# Altium integrated library Microchip Power Management CPU-System Supervisor.IntLib: 428 symbols (part 4 of 12)
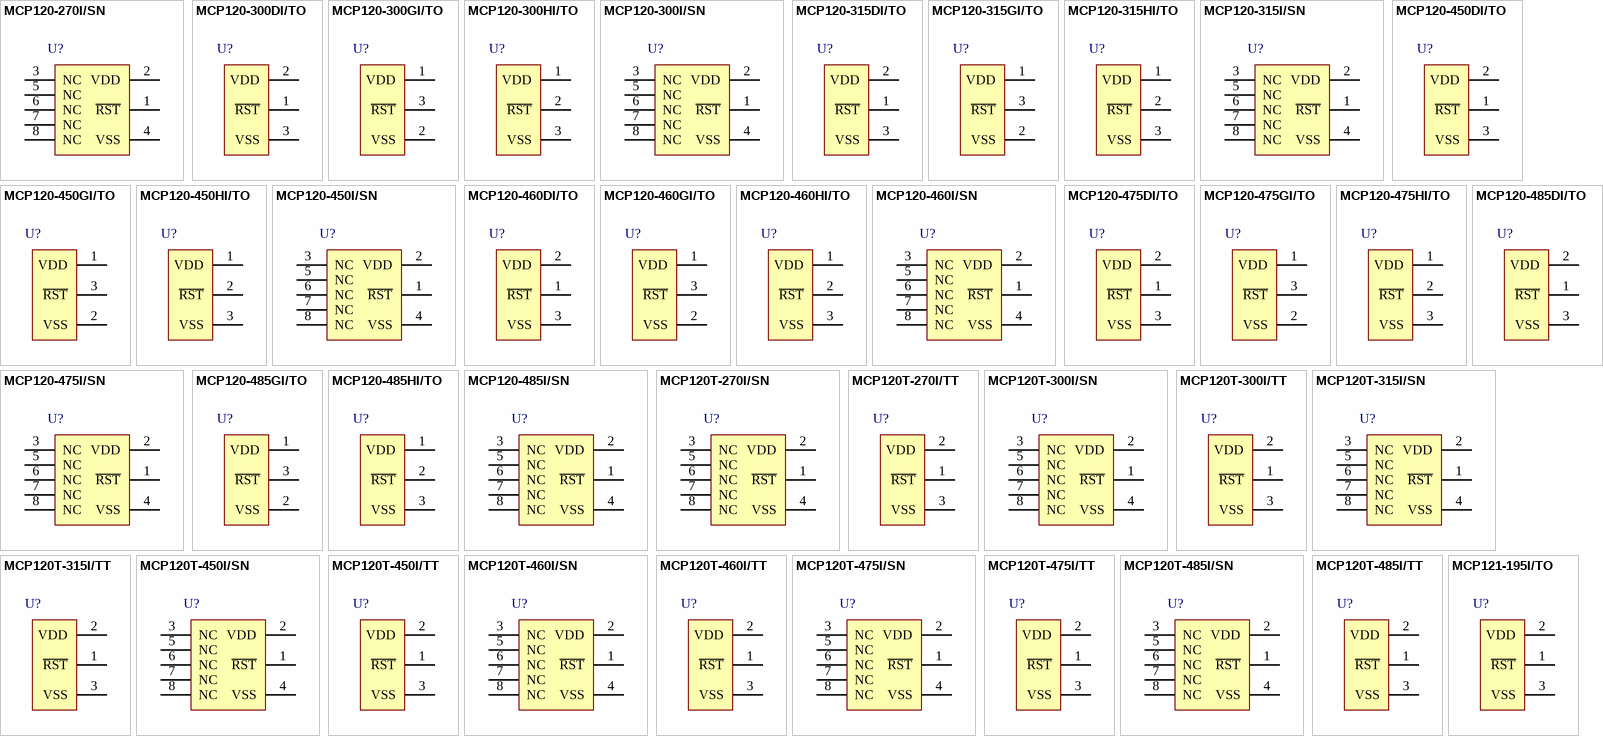
[diagram p13: symbols MCP120-270I/SN to MCP121-195I/TO]

## MCP120T-485I/TT
designator U?
Microcontroller Supervisory Circuit with Open Drain Output, 3-Pin SOT-23, Industrial Temperature, Tape and Reel; Manufacturer: Microchip; PartNumber: MCP120T-485I/TT; DatasheetVersion: revD, 2001; PackageVersion: revBB, Aug-2009; PackageReference: SOT-23-TT3; PackageDescription: 3-Lead Plastic Small Outline Transistor (TT) [SOT-23]; Supplier 1: Digi-Key; Supplier Part Number 1: MCP120T-485I/TTTR-ND; Supplier 2: Digi-Key; Supplier Part Number 2: MCP120T-485I/TTCT-ND; Supplier 3: Digi-Key; Supplier Part Number 3: MCP120T-485I/TTDKR-ND; Supplier 4: Farnell; Supplier Part Number 4: 1851899; Supplier 5: Farnell; Supplier Part Number 5: 1851899RL; Supplier 6: Newark; Supplier Part Number 6: 23C2797; Supplier 7: Mouser; Supplier Part Number 7: 579-MCP120T-485I/TT; Mounting Technology: Surface Mount; Code_IPC: SOT23-3; ComponentLink1Description: Manufacturer URL; ComponentLink1URL: http://www.microchip.com/; ComponentLink2Description: Datasheet; ComponentLink2URL: http://ww1.microchip.com/downloads/en/DeviceDoc/11184d.pdf; ComponentLink3Description: Package Specification; ComponentLink3URL: http://www.microchip.com/stellent/groups/techpub_sg/documents/packagingspec/en012702.pdf
footprint SOT-23-TT3_N (SOT23, 3-Leads, Body 2.9x1.3mm, Pitch 0.95mm, Lead Span 2.4mm, IPC Medium Density)
footprint SOT-23-TT3_L (SOT23, 3-Leads, Body 2.9x1.3mm, Pitch 0.95mm, Lead Span 2.4mm, IPC High Density)
footprint SOT-23-TT3_M (SOT23, 3-Leads, Body 2.9x1.3mm, Pitch 0.95mm, Lead Span 2.4mm, IPC Low Density)
pins: 1 ~{RST} (oc), 2 VDD (power), 3 VSS (power)

## MCP121-195I/TO
designator U?
Micropower Voltage Supervisors, 3-Pin TO-92, Industrial Temperature; Manufacturer: Microchip; PartNumber: MCP121-195I/TO; DatasheetVersion: revB, Mar-2005; PackageVersion: revBB, Aug-2009; PackageReference: TO-92-TO3; PackageDescription: 3-Lead Plastic Transistor Outline (TO) [TO-92]; Supplier 1: Digi-Key; Supplier Part Number 1: MCP121-195I/TO-ND; Supplier 2: Farnell; Supplier Part Number 2: 1851900; Supplier 3: Newark; Supplier Part Number 3: 43J9472; Supplier 4: Mouser; Supplier Part Number 4: 579-MCP121-195I/TO; Mounting Technology: Through Hole; ComponentLink1Description: Manufacturer URL; ComponentLink1URL: http://www.microchip.com/; ComponentLink2Description: Datasheet; ComponentLink2URL: http://ww1.microchip.com/downloads/en/DeviceDoc/21906b.pdf; ComponentLink3Description: Package Specification; ComponentLink3URL: http://www.microchip.com/stellent/groups/techpub_sg/documents/packagingspec/en012702.pdf
footprint TO-92-TO3 (TO, Flat Index; 3 In-Line, Axial Leads; Body Dia. 4.8mm; Leads 0.56 x 0.53 mm (max))
pins: 1 ~{RST} (oc), 2 VDD (power), 3 VSS (power)

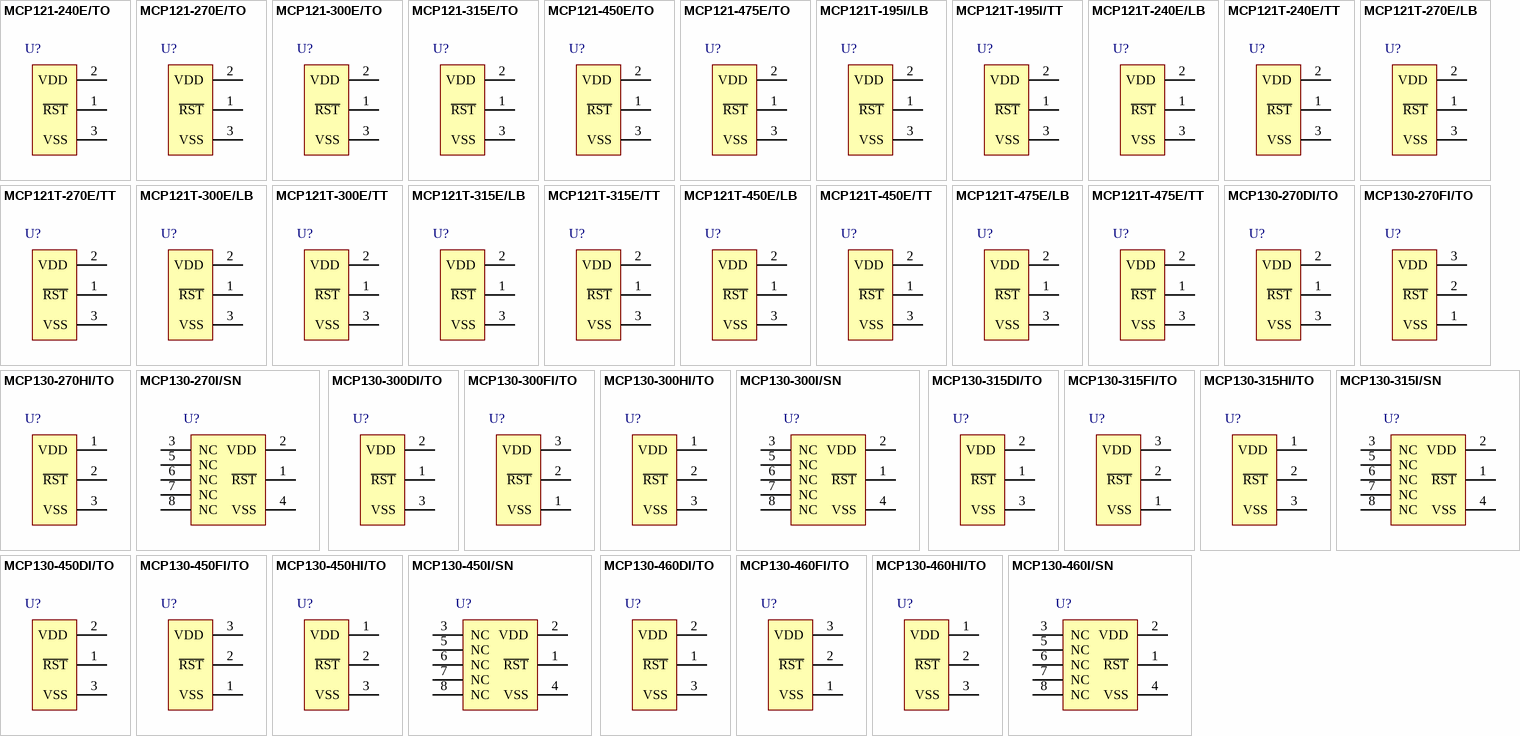
[diagram p3: symbols MCP121-240E/TO to MCP130-460I/SN]

## MCP121-240E/TO
designator U?
Micropower Voltage Supervisors, 3-Pin TO-92, Extended Temperature; Manufacturer: Microchip; PartNumber: MCP121-240E/TO; DatasheetVersion: revB, Mar-2005; PackageVersion: revBB, Aug-2009; PackageReference: TO-92-TO3; PackageDescription: 3-Lead Plastic Transistor Outline (TO) [TO-92]; Supplier 1: Digi-Key; Supplier Part Number 1: MCP121-240E/TO-ND; Supplier 2: Farnell; Supplier Part Number 2: 1851902; Supplier 3: Newark; Supplier Part Number 3: 43J9473; Supplier 4: Mouser; Supplier Part Number 4: 579-MCP121-240E/TO; Mounting Technology: Through Hole; ComponentLink1Description: Manufacturer URL; ComponentLink1URL: http://www.microchip.com/; ComponentLink2Description: Datasheet; ComponentLink2URL: http://ww1.microchip.com/downloads/en/DeviceDoc/21906b.pdf; ComponentLink3Description: Package Specification; ComponentLink3URL: http://www.microchip.com/stellent/groups/techpub_sg/documents/packagingspec/en012702.pdf
footprint TO-92-TO3 (TO, Flat Index; 3 In-Line, Axial Leads; Body Dia. 4.8mm; Leads 0.56 x 0.53 mm (max))
pins: 1 ~{RST} (oc), 2 VDD (power), 3 VSS (power)

## MCP121-270E/TO
designator U?
Micropower Voltage Supervisors, 3-Pin TO-92, Extended Temperature; Manufacturer: Microchip; PartNumber: MCP121-270E/TO; DatasheetVersion: revB, Mar-2005; PackageVersion: revBB, Aug-2009; PackageReference: TO-92-TO3; PackageDescription: 3-Lead Plastic Transistor Outline (TO) [TO-92]; Supplier 1: Digi-Key; Supplier Part Number 1: MCP121-270E/TO-ND; Supplier 2: Farnell; Supplier Part Number 2: 1851903; Supplier 3: Newark; Supplier Part Number 3: 43J9474; Supplier 4: Mouser; Supplier Part Number 4: 579-MCP121-270E/TO; Mounting Technology: Through Hole; ComponentLink1Description: Manufacturer URL; ComponentLink1URL: http://www.microchip.com/; ComponentLink2Description: Datasheet; ComponentLink2URL: http://ww1.microchip.com/downloads/en/DeviceDoc/21906b.pdf; ComponentLink3Description: Package Specification; ComponentLink3URL: http://www.microchip.com/stellent/groups/techpub_sg/documents/packagingspec/en012702.pdf
footprint TO-92-TO3 (TO, Flat Index; 3 In-Line, Axial Leads; Body Dia. 4.8mm; Leads 0.56 x 0.53 mm (max))
pins: 1 ~{RST} (oc), 2 VDD (power), 3 VSS (power)

## MCP121-300E/TO
designator U?
Micropower Voltage Supervisors, 3-Pin TO-92, Extended Temperature; Manufacturer: Microchip; PartNumber: MCP121-300E/TO; DatasheetVersion: revB, Mar-2005; PackageVersion: revBB, Aug-2009; PackageReference: TO-92-TO3; PackageDescription: 3-Lead Plastic Transistor Outline (TO) [TO-92]; Supplier 1: Digi-Key; Supplier Part Number 1: MCP121-300E/TO-ND; Supplier 2: Farnell; Supplier Part Number 2: 1834867; Supplier 3: Newark; Supplier Part Number 3: 43J9475; Supplier 4: Mouser; Supplier Part Number 4: 579-MCP121-300E/TO; Mounting Technology: Through Hole; ComponentLink1Description: Manufacturer URL; ComponentLink1URL: http://www.microchip.com/; ComponentLink2Description: Datasheet; ComponentLink2URL: http://ww1.microchip.com/downloads/en/DeviceDoc/21906b.pdf; ComponentLink3Description: Package Specification; ComponentLink3URL: http://www.microchip.com/stellent/groups/techpub_sg/documents/packagingspec/en012702.pdf
footprint TO-92-TO3 (TO, Flat Index; 3 In-Line, Axial Leads; Body Dia. 4.8mm; Leads 0.56 x 0.53 mm (max))
pins: 1 ~{RST} (oc), 2 VDD (power), 3 VSS (power)

## MCP121-315E/TO
designator U?
Micropower Voltage Supervisors, 3-Pin TO-92, Extended Temperature; Manufacturer: Microchip; PartNumber: MCP121-315E/TO; DatasheetVersion: revB, Mar-2005; PackageVersion: revBB, Aug-2009; PackageReference: TO-92-TO3; PackageDescription: 3-Lead Plastic Transistor Outline (TO) [TO-92]; Supplier 1: Digi-Key; Supplier Part Number 1: MCP121-315E/TO-ND; Supplier 2: Farnell; Supplier Part Number 2: 1851904; Supplier 3: Newark; Supplier Part Number 3: 43J9476; Supplier 4: Mouser; Supplier Part Number 4: 579-MCP121-315E/TO; Mounting Technology: Through Hole; ComponentLink1Description: Manufacturer URL; ComponentLink1URL: http://www.microchip.com/; ComponentLink2Description: Datasheet; ComponentLink2URL: http://ww1.microchip.com/downloads/en/DeviceDoc/21906b.pdf; ComponentLink3Description: Package Specification; ComponentLink3URL: http://www.microchip.com/stellent/groups/techpub_sg/documents/packagingspec/en012702.pdf
footprint TO-92-TO3 (TO, Flat Index; 3 In-Line, Axial Leads; Body Dia. 4.8mm; Leads 0.56 x 0.53 mm (max))
pins: 1 ~{RST} (oc), 2 VDD (power), 3 VSS (power)

## MCP121-450E/TO
designator U?
Micropower Voltage Supervisors, 3-Pin TO-92, Extended Temperature; Manufacturer: Microchip; PartNumber: MCP121-450E/TO; DatasheetVersion: revB, Mar-2005; PackageVersion: revBB, Aug-2009; PackageReference: TO-92-TO3; PackageDescription: 3-Lead Plastic Transistor Outline (TO) [TO-92]; Supplier 1: Digi-Key; Supplier Part Number 1: MCP121-450E/TO-ND; Supplier 2: Farnell; Supplier Part Number 2: 8752885; Supplier 3: Newark; Supplier Part Number 3: 43J9477; Supplier 4: Mouser; Supplier Part Number 4: 579-MCP121-450E/TO; Mounting Technology: Through Hole; ComponentLink1Description: Manufacturer URL; ComponentLink1URL: http://www.microchip.com/; ComponentLink2Description: Datasheet; ComponentLink2URL: http://ww1.microchip.com/downloads/en/DeviceDoc/21906b.pdf; ComponentLink3Description: Package Specification; ComponentLink3URL: http://www.microchip.com/stellent/groups/techpub_sg/documents/packagingspec/en012702.pdf
footprint TO-92-TO3 (TO, Flat Index; 3 In-Line, Axial Leads; Body Dia. 4.8mm; Leads 0.56 x 0.53 mm (max))
pins: 1 ~{RST} (oc), 2 VDD (power), 3 VSS (power)

## MCP121-475E/TO
designator U?
Micropower Voltage Supervisors, 3-Pin TO-92, Extended Temperature; Manufacturer: Microchip; PartNumber: MCP121-475E/TO; DatasheetVersion: revB, Mar-2005; PackageVersion: revBB, Aug-2009; PackageReference: TO-92-TO3; PackageDescription: 3-Lead Plastic Transistor Outline (TO) [TO-92]; Supplier 1: Digi-Key; Supplier Part Number 1: MCP121-475E/TO-ND; Supplier 2: Farnell; Supplier Part Number 2: 1851905; Supplier 3: Newark; Supplier Part Number 3: 43J9478; Supplier 4: Mouser; Supplier Part Number 4: 579-MCP121-475E/TO; Mounting Technology: Through Hole; ComponentLink1Description: Manufacturer URL; ComponentLink1URL: http://www.microchip.com/; ComponentLink2Description: Datasheet; ComponentLink2URL: http://ww1.microchip.com/downloads/en/DeviceDoc/21906b.pdf; ComponentLink3Description: Package Specification; ComponentLink3URL: http://www.microchip.com/stellent/groups/techpub_sg/documents/packagingspec/en012702.pdf
footprint TO-92-TO3 (TO, Flat Index; 3 In-Line, Axial Leads; Body Dia. 4.8mm; Leads 0.56 x 0.53 mm (max))
pins: 1 ~{RST} (oc), 2 VDD (power), 3 VSS (power)

## MCP121T-195I/LB
designator U?
Micropower Voltage Supervisors, 3-Pin SC-70, Industrial Temperature, Tape and Reel; Manufacturer: Microchip; PartNumber: MCP121T-195I/LB; DatasheetVersion: revB, Mar-2005; PackageVersion: revBB, Aug-2009; PackageReference: SC70-LB3; PackageDescription: 3-Lead Plastic Small Outline Transistor (LB) [SC70]; Supplier 1: Digi-Key; Supplier Part Number 1: MCP121T-195I/LBTR-ND; Supplier 2: Digi-Key; Supplier Part Number 2: MCP121T-195I/LBCT-ND; Supplier 3: Digi-Key; Supplier Part Number 3: MCP121T-195I/LBDKR-ND; Supplier 4: Newark; Supplier Part Number 4: 88H9748; Supplier 5: Mouser; Supplier Part Number 5: 579-MCP121T-195I/LB; Mounting Technology: Surface Mount; ComponentLink1Description: Manufacturer URL; ComponentLink1URL: http://www.microchip.com/; ComponentLink2Description: Datasheet; ComponentLink2URL: http://ww1.microchip.com/downloads/en/DeviceDoc/21906b.pdf; ComponentLink3Description: Package Specification; ComponentLink3URL: http://www.microchip.com/stellent/groups/techpub_sg/documents/packagingspec/en012702.pdf
footprint SC70-LB3_N (SOT323, 3-Leads, Body 2.0x1.3mm, Pitch 0.65mm, Lead Span 2.1mm, IPC Medium Density)
footprint SC70-LB3_L (SOT323, 3-Leads, Body 2.0x1.3mm, Pitch 0.65mm, Lead Span 2.1mm, IPC High Density)
footprint SC70-LB3_M (SOT323, 3-Leads, Body 2.0x1.3mm, Pitch 0.65mm, Lead Span 2.1mm, IPC Low Density)
pins: 1 ~{RST} (oc), 2 VDD (power), 3 VSS (power)

## MCP121T-195I/TT
designator U?
Micropower Voltage Supervisors, 3-Pin SOT-23, Industrial Temperature, Tape and Reel; Manufacturer: Microchip; PartNumber: MCP121T-195I/TT; DatasheetVersion: revB, Mar-2005; PackageVersion: revBB, Aug-2009; PackageReference: SOT-23-TT3; PackageDescription: 3-Lead Plastic Small Outline Transistor (TT) [SOT-23]; Supplier 1: Digi-Key; Supplier Part Number 1: MCP121T-195I/TTTR-ND; Supplier 2: Digi-Key; Supplier Part Number 2: MCP121T-195I/TTCT-ND; Supplier 3: Digi-Key; Supplier Part Number 3: MCP121T-195I/TTDKR-ND; Supplier 4: Farnell; Supplier Part Number 4: 1851906RL; Supplier 5: Farnell; Supplier Part Number 5: 1851906; Supplier 6: Newark; Supplier Part Number 6: 88H9750; Supplier 7: Mouser; Supplier Part Number 7: 579-MCP121T-195I/TT; Mounting Technology: Surface Mount; Code_IPC: SOT23-3; ComponentLink1Description: Manufacturer URL; ComponentLink1URL: http://www.microchip.com/; ComponentLink2Description: Datasheet; ComponentLink2URL: http://ww1.microchip.com/downloads/en/DeviceDoc/21906b.pdf; ComponentLink3Description: Package Specification; ComponentLink3URL: http://www.microchip.com/stellent/groups/techpub_sg/documents/packagingspec/en012702.pdf
footprint SOT-23-TT3_N (SOT23, 3-Leads, Body 2.9x1.3mm, Pitch 0.95mm, Lead Span 2.4mm, IPC Medium Density)
footprint SOT-23-TT3_L (SOT23, 3-Leads, Body 2.9x1.3mm, Pitch 0.95mm, Lead Span 2.4mm, IPC High Density)
footprint SOT-23-TT3_M (SOT23, 3-Leads, Body 2.9x1.3mm, Pitch 0.95mm, Lead Span 2.4mm, IPC Low Density)
pins: 1 ~{RST} (oc), 2 VDD (power), 3 VSS (power)

## MCP121T-240E/LB
designator U?
Micropower Voltage Supervisors, 3-Pin SC-70, Extended Temperature, Tape and Reel; Manufacturer: Microchip; PartNumber: MCP121T-240E/LB; DatasheetVersion: revB, Mar-2005; PackageVersion: revBB, Aug-2009; PackageReference: SC70-LB3; PackageDescription: 3-Lead Plastic Small Outline Transistor (LB) [SC70]; Supplier 1: Digi-Key; Supplier Part Number 1: MCP121T-240E/LB-ND; Supplier 2: Mouser; Supplier Part Number 2: 579-MCP121T-240E/LB; Mounting Technology: Surface Mount; ComponentLink1Description: Manufacturer URL; ComponentLink1URL: http://www.microchip.com/; ComponentLink2Description: Datasheet; ComponentLink2URL: http://ww1.microchip.com/downloads/en/DeviceDoc/21906b.pdf; ComponentLink3Description: Package Specification; ComponentLink3URL: http://www.microchip.com/stellent/groups/techpub_sg/documents/packagingspec/en012702.pdf
footprint SC70-LB3_N (SOT323, 3-Leads, Body 2.0x1.3mm, Pitch 0.65mm, Lead Span 2.1mm, IPC Medium Density)
footprint SC70-LB3_L (SOT323, 3-Leads, Body 2.0x1.3mm, Pitch 0.65mm, Lead Span 2.1mm, IPC High Density)
footprint SC70-LB3_M (SOT323, 3-Leads, Body 2.0x1.3mm, Pitch 0.65mm, Lead Span 2.1mm, IPC Low Density)
pins: 1 ~{RST} (oc), 2 VDD (power), 3 VSS (power)

## MCP121T-240E/TT
designator U?
Micropower Voltage Supervisors, 3-Pin SOT-23, Extended Temperature, Tape and Reel; Manufacturer: Microchip; PartNumber: MCP121T-240E/TT; DatasheetVersion: revB, Mar-2005; PackageVersion: revBB, Aug-2009; PackageReference: SOT-23-TT3; PackageDescription: 3-Lead Plastic Small Outline Transistor (TT) [SOT-23]; Supplier 1: Digi-Key; Supplier Part Number 1: MCP121T-240E/TTTR-ND; Supplier 2: Digi-Key; Supplier Part Number 2: MCP121T-240E/TTCT-ND; Supplier 3: Digi-Key; Supplier Part Number 3: MCP121T-240E/TTDKR-ND; Supplier 4: Farnell; Supplier Part Number 4: 1851907; Supplier 5: Farnell; Supplier Part Number 5: 1851907RL; Supplier 6: Newark; Supplier Part Number 6: 43J9480; Supplier 7: Newark; Supplier Part Number 7: 31T1314; Supplier 8: Mouser; Supplier Part Number 8: 579-MCP121T-240E/TT; Mounting Technology: Surface Mount; Code_IPC: SOT23-3; ComponentLink1Description: Manufacturer URL; ComponentLink1URL: http://www.microchip.com/; ComponentLink2Description: Datasheet; ComponentLink2URL: http://ww1.microchip.com/downloads/en/DeviceDoc/21906b.pdf; ComponentLink3Description: Package Specification; ComponentLink3URL: http://www.microchip.com/stellent/groups/techpub_sg/documents/packagingspec/en012702.pdf
footprint SOT-23-TT3_N (SOT23, 3-Leads, Body 2.9x1.3mm, Pitch 0.95mm, Lead Span 2.4mm, IPC Medium Density)
footprint SOT-23-TT3_L (SOT23, 3-Leads, Body 2.9x1.3mm, Pitch 0.95mm, Lead Span 2.4mm, IPC High Density)
footprint SOT-23-TT3_M (SOT23, 3-Leads, Body 2.9x1.3mm, Pitch 0.95mm, Lead Span 2.4mm, IPC Low Density)
pins: 1 ~{RST} (oc), 2 VDD (power), 3 VSS (power)

## MCP121T-270E/LB
designator U?
Micropower Voltage Supervisors, 3-Pin SC-70, Extended Temperature, Tape and Reel; Manufacturer: Microchip; PartNumber: MCP121T-270E/LB; DatasheetVersion: revB, Mar-2005; PackageVersion: revBB, Aug-2009; PackageReference: SC70-LB3; PackageDescription: 3-Lead Plastic Small Outline Transistor (LB) [SC70]; Supplier 1: Digi-Key; Supplier Part Number 1: MCP121T-270E/LB-ND; Supplier 2: Mouser; Supplier Part Number 2: 579-MCP121T-270E/LB; Mounting Technology: Surface Mount; ComponentLink1Description: Manufacturer URL; ComponentLink1URL: http://www.microchip.com/; ComponentLink2Description: Datasheet; ComponentLink2URL: http://ww1.microchip.com/downloads/en/DeviceDoc/21906b.pdf; ComponentLink3Description: Package Specification; ComponentLink3URL: http://www.microchip.com/stellent/groups/techpub_sg/documents/packagingspec/en012702.pdf
footprint SC70-LB3_N (SOT323, 3-Leads, Body 2.0x1.3mm, Pitch 0.65mm, Lead Span 2.1mm, IPC Medium Density)
footprint SC70-LB3_L (SOT323, 3-Leads, Body 2.0x1.3mm, Pitch 0.65mm, Lead Span 2.1mm, IPC High Density)
footprint SC70-LB3_M (SOT323, 3-Leads, Body 2.0x1.3mm, Pitch 0.65mm, Lead Span 2.1mm, IPC Low Density)
pins: 1 ~{RST} (oc), 2 VDD (power), 3 VSS (power)

## MCP121T-270E/TT
designator U?
Micropower Voltage Supervisors, 3-Pin SOT-23, Extended Temperature, Tape and Reel; Manufacturer: Microchip; PartNumber: MCP121T-270E/TT; DatasheetVersion: revB, Mar-2005; PackageVersion: revBB, Aug-2009; PackageReference: SOT-23-TT3; PackageDescription: 3-Lead Plastic Small Outline Transistor (TT) [SOT-23]; Supplier 1: Digi-Key; Supplier Part Number 1: MCP121T-270E/TTTR-ND; Supplier 2: Digi-Key; Supplier Part Number 2: MCP121T-270E/TTCT-ND; Supplier 3: Digi-Key; Supplier Part Number 3: MCP121T-270E/TTDKR-ND; Supplier 4: Farnell; Supplier Part Number 4: 1851908RL; Supplier 5: Farnell; Supplier Part Number 5: 1851908; Supplier 6: Newark; Supplier Part Number 6: 43J9482; Supplier 7: Newark; Supplier Part Number 7: 31T1315; Supplier 8: Mouser; Supplier Part Number 8: 579-MCP121T-270E/TT; Mounting Technology: Surface Mount; Code_IPC: SOT23-3; ComponentLink1Description: Manufacturer URL; ComponentLink1URL: http://www.microchip.com/; ComponentLink2Description: Datasheet; ComponentLink2URL: http://ww1.microchip.com/downloads/en/DeviceDoc/21906b.pdf; ComponentLink3Description: Package Specification; ComponentLink3URL: http://www.microchip.com/stellent/groups/techpub_sg/documents/packagingspec/en012702.pdf
footprint SOT-23-TT3_N (SOT23, 3-Leads, Body 2.9x1.3mm, Pitch 0.95mm, Lead Span 2.4mm, IPC Medium Density)
footprint SOT-23-TT3_L (SOT23, 3-Leads, Body 2.9x1.3mm, Pitch 0.95mm, Lead Span 2.4mm, IPC High Density)
footprint SOT-23-TT3_M (SOT23, 3-Leads, Body 2.9x1.3mm, Pitch 0.95mm, Lead Span 2.4mm, IPC Low Density)
pins: 1 ~{RST} (oc), 2 VDD (power), 3 VSS (power)

## MCP121T-300E/LB
designator U?
Micropower Voltage Supervisors, 3-Pin SC-70, Extended Temperature, Tape and Reel; Manufacturer: Microchip; PartNumber: MCP121T-300E/LB; DatasheetVersion: revB, Mar-2005; PackageVersion: revBB, Aug-2009; PackageReference: SC70-LB3; PackageDescription: 3-Lead Plastic Small Outline Transistor (LB) [SC70]; Supplier 1: Digi-Key; Supplier Part Number 1: MCP121T-300E/LB-ND; Supplier 2: Mouser; Supplier Part Number 2: 579-MCP121T-300E/LB; Mounting Technology: Surface Mount; ComponentLink1Description: Manufacturer URL; ComponentLink1URL: http://www.microchip.com/; ComponentLink2Description: Datasheet; ComponentLink2URL: http://ww1.microchip.com/downloads/en/DeviceDoc/21906b.pdf; ComponentLink3Description: Package Specification; ComponentLink3URL: http://www.microchip.com/stellent/groups/techpub_sg/documents/packagingspec/en012702.pdf
footprint SC70-LB3_N (SOT323, 3-Leads, Body 2.0x1.3mm, Pitch 0.65mm, Lead Span 2.1mm, IPC Medium Density)
footprint SC70-LB3_L (SOT323, 3-Leads, Body 2.0x1.3mm, Pitch 0.65mm, Lead Span 2.1mm, IPC High Density)
footprint SC70-LB3_M (SOT323, 3-Leads, Body 2.0x1.3mm, Pitch 0.65mm, Lead Span 2.1mm, IPC Low Density)
pins: 1 ~{RST} (oc), 2 VDD (power), 3 VSS (power)

## MCP121T-300E/TT
designator U?
Micropower Voltage Supervisors, 3-Pin SOT-23, Extended Temperature, Tape and Reel; Manufacturer: Microchip; PartNumber: MCP121T-300E/TT; DatasheetVersion: revB, Mar-2005; PackageVersion: revBB, Aug-2009; PackageReference: SOT-23-TT3; PackageDescription: 3-Lead Plastic Small Outline Transistor (TT) [SOT-23]; Supplier 1: Digi-Key; Supplier Part Number 1: MCP121T-300E/TTTR-ND; Supplier 2: Digi-Key; Supplier Part Number 2: MCP121T-300E/TTCT-ND; Supplier 3: Digi-Key; Supplier Part Number 3: MCP121T-300E/TTDKR-ND; Supplier 4: Farnell; Supplier Part Number 4: 1834868RL; Supplier 5: Farnell; Supplier Part Number 5: 1834868; Supplier 6: Newark; Supplier Part Number 6: 84R5170; Supplier 7: Mouser; Supplier Part Number 7: 579-MCP121T-300E/TT; Mounting Technology: Surface Mount; Code_IPC: SOT23-3; ComponentLink1Description: Manufacturer URL; ComponentLink1URL: http://www.microchip.com/; ComponentLink2Description: Datasheet; ComponentLink2URL: http://ww1.microchip.com/downloads/en/DeviceDoc/21906b.pdf; ComponentLink3Description: Package Specification; ComponentLink3URL: http://www.microchip.com/stellent/groups/techpub_sg/documents/packagingspec/en012702.pdf
footprint SOT-23-TT3_N (SOT23, 3-Leads, Body 2.9x1.3mm, Pitch 0.95mm, Lead Span 2.4mm, IPC Medium Density)
footprint SOT-23-TT3_L (SOT23, 3-Leads, Body 2.9x1.3mm, Pitch 0.95mm, Lead Span 2.4mm, IPC High Density)
footprint SOT-23-TT3_M (SOT23, 3-Leads, Body 2.9x1.3mm, Pitch 0.95mm, Lead Span 2.4mm, IPC Low Density)
pins: 1 ~{RST} (oc), 2 VDD (power), 3 VSS (power)

## MCP121T-315E/LB
designator U?
Micropower Voltage Supervisors, 3-Pin SC-70, Extended Temperature, Tape and Reel; Manufacturer: Microchip; PartNumber: MCP121T-315E/LB; DatasheetVersion: revB, Mar-2005; PackageVersion: revBB, Aug-2009; PackageReference: SC70-LB3; PackageDescription: 3-Lead Plastic Small Outline Transistor (LB) [SC70]; Supplier 1: Digi-Key; Supplier Part Number 1: MCP121T-315E/LB-ND; Supplier 2: Newark; Supplier Part Number 2: 43J9485; Supplier 3: Mouser; Supplier Part Number 3: 579-MCP121T-315E/LB; Mounting Technology: Surface Mount; ComponentLink1Description: Manufacturer URL; ComponentLink1URL: http://www.microchip.com/; ComponentLink2Description: Datasheet; ComponentLink2URL: http://ww1.microchip.com/downloads/en/DeviceDoc/21906b.pdf; ComponentLink3Description: Package Specification; ComponentLink3URL: http://www.microchip.com/stellent/groups/techpub_sg/documents/packagingspec/en012702.pdf
footprint SC70-LB3_N (SOT323, 3-Leads, Body 2.0x1.3mm, Pitch 0.65mm, Lead Span 2.1mm, IPC Medium Density)
footprint SC70-LB3_L (SOT323, 3-Leads, Body 2.0x1.3mm, Pitch 0.65mm, Lead Span 2.1mm, IPC High Density)
footprint SC70-LB3_M (SOT323, 3-Leads, Body 2.0x1.3mm, Pitch 0.65mm, Lead Span 2.1mm, IPC Low Density)
pins: 1 ~{RST} (oc), 2 VDD (power), 3 VSS (power)

## MCP121T-315E/TT
designator U?
Micropower Voltage Supervisors, 3-Pin SOT-23, Extended Temperature, Tape and Reel; Manufacturer: Microchip; PartNumber: MCP121T-315E/TT; DatasheetVersion: revB, Mar-2005; PackageVersion: revBB, Aug-2009; PackageReference: SOT-23-TT3; PackageDescription: 3-Lead Plastic Small Outline Transistor (TT) [SOT-23]; Supplier 1: Digi-Key; Supplier Part Number 1: MCP121T-315E/TTTR-ND; Supplier 2: Digi-Key; Supplier Part Number 2: MCP121T-315E/TTCT-ND; Supplier 3: Digi-Key; Supplier Part Number 3: MCP121T-315E/TTDKR-ND; Supplier 4: Farnell; Supplier Part Number 4: 1851909RL; Supplier 5: Farnell; Supplier Part Number 5: 1851909; Supplier 6: Newark; Supplier Part Number 6: 31T1316; Supplier 7: Newark; Supplier Part Number 7: 43J9486; Supplier 8: Mouser; Supplier Part Number 8: 579-MCP121T-315E/TT; Mounting Technology: Surface Mount; Code_IPC: SOT23-3; ComponentLink1Description: Manufacturer URL; ComponentLink1URL: http://www.microchip.com/; ComponentLink2Description: Datasheet; ComponentLink2URL: http://ww1.microchip.com/downloads/en/DeviceDoc/21906b.pdf; ComponentLink3Description: Package Specification; ComponentLink3URL: http://www.microchip.com/stellent/groups/techpub_sg/documents/packagingspec/en012702.pdf
footprint SOT-23-TT3_N (SOT23, 3-Leads, Body 2.9x1.3mm, Pitch 0.95mm, Lead Span 2.4mm, IPC Medium Density)
footprint SOT-23-TT3_L (SOT23, 3-Leads, Body 2.9x1.3mm, Pitch 0.95mm, Lead Span 2.4mm, IPC High Density)
footprint SOT-23-TT3_M (SOT23, 3-Leads, Body 2.9x1.3mm, Pitch 0.95mm, Lead Span 2.4mm, IPC Low Density)
pins: 1 ~{RST} (oc), 2 VDD (power), 3 VSS (power)

## MCP121T-450E/LB
designator U?
Micropower Voltage Supervisors, 3-Pin SC-70, Extended Temperature, Tape and Reel; Manufacturer: Microchip; PartNumber: MCP121T-450E/LB; DatasheetVersion: revB, Mar-2005; PackageVersion: revBB, Aug-2009; PackageReference: SC70-LB3; PackageDescription: 3-Lead Plastic Small Outline Transistor (LB) [SC70]; Supplier 1: Digi-Key; Supplier Part Number 1: MCP121T-450E/LB-ND; Supplier 2: Mouser; Supplier Part Number 2: 579-MCP121T-450E/LB; Mounting Technology: Surface Mount; ComponentLink1Description: Manufacturer URL; ComponentLink1URL: http://www.microchip.com/; ComponentLink2Description: Datasheet; ComponentLink2URL: http://ww1.microchip.com/downloads/en/DeviceDoc/21906b.pdf; ComponentLink3Description: Package Specification; ComponentLink3URL: http://www.microchip.com/stellent/groups/techpub_sg/documents/packagingspec/en012702.pdf
footprint SC70-LB3_N (SOT323, 3-Leads, Body 2.0x1.3mm, Pitch 0.65mm, Lead Span 2.1mm, IPC Medium Density)
footprint SC70-LB3_L (SOT323, 3-Leads, Body 2.0x1.3mm, Pitch 0.65mm, Lead Span 2.1mm, IPC High Density)
footprint SC70-LB3_M (SOT323, 3-Leads, Body 2.0x1.3mm, Pitch 0.65mm, Lead Span 2.1mm, IPC Low Density)
pins: 1 ~{RST} (oc), 2 VDD (power), 3 VSS (power)

## MCP121T-450E/TT
designator U?
Micropower Voltage Supervisors, 3-Pin SOT-23, Extended Temperature, Tape and Reel; Manufacturer: Microchip; PartNumber: MCP121T-450E/TT; DatasheetVersion: revB, Mar-2005; PackageVersion: revBB, Aug-2009; PackageReference: SOT-23-TT3; PackageDescription: 3-Lead Plastic Small Outline Transistor (TT) [SOT-23]; Supplier 1: Digi-Key; Supplier Part Number 1: MCP121T-450E/TTTR-ND; Supplier 2: Digi-Key; Supplier Part Number 2: MCP121T-450E/TTCT-ND; Supplier 3: Digi-Key; Supplier Part Number 3: MCP121T-450E/TTDKR-ND; Supplier 4: Farnell; Supplier Part Number 4: 1834869; Supplier 5: Farnell; Supplier Part Number 5: 1834869RL; Supplier 6: Newark; Supplier Part Number 6: 84R5171; Supplier 7: Mouser; Supplier Part Number 7: 579-MCP121T-450E/TT; Mounting Technology: Surface Mount; Code_IPC: SOT23-3; ComponentLink1Description: Manufacturer URL; ComponentLink1URL: http://www.microchip.com/; ComponentLink2Description: Datasheet; ComponentLink2URL: http://ww1.microchip.com/downloads/en/DeviceDoc/21906b.pdf; ComponentLink3Description: Package Specification; ComponentLink3URL: http://www.microchip.com/stellent/groups/techpub_sg/documents/packagingspec/en012702.pdf
footprint SOT-23-TT3_N (SOT23, 3-Leads, Body 2.9x1.3mm, Pitch 0.95mm, Lead Span 2.4mm, IPC Medium Density)
footprint SOT-23-TT3_L (SOT23, 3-Leads, Body 2.9x1.3mm, Pitch 0.95mm, Lead Span 2.4mm, IPC High Density)
footprint SOT-23-TT3_M (SOT23, 3-Leads, Body 2.9x1.3mm, Pitch 0.95mm, Lead Span 2.4mm, IPC Low Density)
pins: 1 ~{RST} (oc), 2 VDD (power), 3 VSS (power)

## MCP121T-475E/LB
designator U?
Micropower Voltage Supervisors, 3-Pin SC-70, Extended Temperature, Tape and Reel; Manufacturer: Microchip; PartNumber: MCP121T-475E/LB; DatasheetVersion: revB, Mar-2005; PackageVersion: revBB, Aug-2009; PackageReference: SC70-LB3; PackageDescription: 3-Lead Plastic Small Outline Transistor (LB) [SC70]; Supplier 1: Digi-Key; Supplier Part Number 1: MCP121T-475E/LB-ND; Supplier 2: Mouser; Supplier Part Number 2: 579-MCP121T-475E/LB; Mounting Technology: Surface Mount; ComponentLink1Description: Manufacturer URL; ComponentLink1URL: http://www.microchip.com/; ComponentLink2Description: Datasheet; ComponentLink2URL: http://ww1.microchip.com/downloads/en/DeviceDoc/21906b.pdf; ComponentLink3Description: Package Specification; ComponentLink3URL: http://www.microchip.com/stellent/groups/techpub_sg/documents/packagingspec/en012702.pdf
footprint SC70-LB3_N (SOT323, 3-Leads, Body 2.0x1.3mm, Pitch 0.65mm, Lead Span 2.1mm, IPC Medium Density)
footprint SC70-LB3_L (SOT323, 3-Leads, Body 2.0x1.3mm, Pitch 0.65mm, Lead Span 2.1mm, IPC High Density)
footprint SC70-LB3_M (SOT323, 3-Leads, Body 2.0x1.3mm, Pitch 0.65mm, Lead Span 2.1mm, IPC Low Density)
pins: 1 ~{RST} (oc), 2 VDD (power), 3 VSS (power)

## MCP121T-475E/TT
designator U?
Micropower Voltage Supervisors, 3-Pin SOT-23, Extended Temperature, Tape and Reel; Manufacturer: Microchip; PartNumber: MCP121T-475E/TT; DatasheetVersion: revB, Mar-2005; PackageVersion: revBB, Aug-2009; PackageReference: SOT-23-TT3; PackageDescription: 3-Lead Plastic Small Outline Transistor (TT) [SOT-23]; Supplier 1: Digi-Key; Supplier Part Number 1: MCP121T-475E/TTTR-ND; Supplier 2: Digi-Key; Supplier Part Number 2: MCP121T-475E/TTCT-ND; Supplier 3: Digi-Key; Supplier Part Number 3: MCP121T-475E/TTDKR-ND; Supplier 4: Farnell; Supplier Part Number 4: 8752893RL; Supplier 5: Farnell; Supplier Part Number 5: 8752893; Supplier 6: Newark; Supplier Part Number 6: 43J9490; Supplier 7: Mouser; Supplier Part Number 7: 579-MCP121T-475E/TT; Mounting Technology: Surface Mount; Code_IPC: SOT23-3; ComponentLink1Description: Manufacturer URL; ComponentLink1URL: http://www.microchip.com/; ComponentLink2Description: Datasheet; ComponentLink2URL: http://ww1.microchip.com/downloads/en/DeviceDoc/21906b.pdf; ComponentLink3Description: Package Specification; ComponentLink3URL: http://www.microchip.com/stellent/groups/techpub_sg/documents/packagingspec/en012702.pdf
footprint SOT-23-TT3_N (SOT23, 3-Leads, Body 2.9x1.3mm, Pitch 0.95mm, Lead Span 2.4mm, IPC Medium Density)
footprint SOT-23-TT3_L (SOT23, 3-Leads, Body 2.9x1.3mm, Pitch 0.95mm, Lead Span 2.4mm, IPC High Density)
footprint SOT-23-TT3_M (SOT23, 3-Leads, Body 2.9x1.3mm, Pitch 0.95mm, Lead Span 2.4mm, IPC Low Density)
pins: 1 ~{RST} (oc), 2 VDD (power), 3 VSS (power)

## MCP130-270DI/TO
designator U?
Microcontroller Supervisory Circuit with Open Drain Output, 3-Pin TO-92, Industrial Temperature; Manufacturer: Microchip; PartNumber: MCP130-270DI/TO; DatasheetVersion: revD, 2001; PackageVersion: revBB, Aug-2009; PackageReference: TO-92-TO3; PackageDescription: 3-Lead Plastic Transistor Outline (TO) [TO-92]; Supplier 1: Digi-Key; Supplier Part Number 1: MCP130-270DI/TO-ND; Supplier 2: Farnell; Supplier Part Number 2: 1851917; Supplier 3: Newark; Supplier Part Number 3: 68K5100; Supplier 4: Mouser; Supplier Part Number 4: 579-MCP130-270DI/TO; Mounting Technology: Through Hole; ComponentLink1Description: Manufacturer URL; ComponentLink1URL: http://www.microchip.com/; ComponentLink2Description: Datasheet; ComponentLink2URL: http://ww1.microchip.com/downloads/en/DeviceDoc/11184d.pdf; ComponentLink3Description: Package Specification; ComponentLink3URL: http://www.microchip.com/stellent/groups/techpub_sg/documents/packagingspec/en012702.pdf
footprint TO-92-TO3 (TO, Flat Index; 3 In-Line, Axial Leads; Body Dia. 4.8mm; Leads 0.56 x 0.53 mm (max))
pins: 1 ~{RST} (oc), 2 VDD (power), 3 VSS (power)

## MCP130-270FI/TO
designator U?
Microcontroller Supervisory Circuit with Open Drain Output, 3-Pin TO-92, Industrial Temperature; Manufacturer: Microchip; PartNumber: MCP130-270FI/TO; DatasheetVersion: revD, 2001; PackageVersion: revBB, Aug-2009; PackageReference: TO-92-TO3; PackageDescription: 3-Lead Plastic Transistor Outline (TO) [TO-92]; Supplier 1: Digi-Key; Supplier Part Number 1: MCP130-270FI/TO-ND; Supplier 2: Mouser; Supplier Part Number 2: 579-MCP130-270FI/TO; Mounting Technology: Through Hole; ComponentLink1Description: Manufacturer URL; ComponentLink1URL: http://www.microchip.com/; ComponentLink2Description: Datasheet; ComponentLink2URL: http://ww1.microchip.com/downloads/en/DeviceDoc/11184d.pdf; ComponentLink3Description: Package Specification; ComponentLink3URL: http://www.microchip.com/stellent/groups/techpub_sg/documents/packagingspec/en012702.pdf
footprint TO-92-TO3 (TO, Flat Index; 3 In-Line, Axial Leads; Body Dia. 4.8mm; Leads 0.56 x 0.53 mm (max))
pins: 1 VSS (power), 2 ~{RST} (oc), 3 VDD (power)

## MCP130-270HI/TO
designator U?
Microcontroller Supervisory Circuit with Open Drain Output, 3-Pin TO-92, Industrial Temperature; Manufacturer: Microchip; PartNumber: MCP130-270HI/TO; DatasheetVersion: revD, 2001; PackageVersion: revBB, Aug-2009; PackageReference: TO-92-TO3; PackageDescription: 3-Lead Plastic Transistor Outline (TO) [TO-92]; Supplier 1: Digi-Key; Supplier Part Number 1: MCP130-270HI/TO-ND; Supplier 2: Mouser; Supplier Part Number 2: 579-MCP130-270HI/TO; Mounting Technology: Through Hole; ComponentLink1Description: Manufacturer URL; ComponentLink1URL: http://www.microchip.com/; ComponentLink2Description: Datasheet; ComponentLink2URL: http://ww1.microchip.com/downloads/en/DeviceDoc/11184d.pdf; ComponentLink3Description: Package Specification; ComponentLink3URL: http://www.microchip.com/stellent/groups/techpub_sg/documents/packagingspec/en012702.pdf
footprint TO-92-TO3 (TO, Flat Index; 3 In-Line, Axial Leads; Body Dia. 4.8mm; Leads 0.56 x 0.53 mm (max))
pins: 1 VDD (power), 2 ~{RST} (oc), 3 VSS (power)

## MCP130-270I/SN
designator U?
Microcontroller Supervisory Circuit with Open Drain Output, 8-Pin SOIC, Industrial Temperature; Manufacturer: Microchip; PartNumber: MCP130-270I/SN; DatasheetVersion: revD, 2001; PackageVersion: revBB, Aug-2009; PackageReference: SOIC-SN8; PackageDescription: 8-Lead Plastic Small Outline (SN) - Narrow, 3.90mm Body [SOIC]; Supplier 1: Digi-Key; Supplier Part Number 1: MCP130-270I/SN-ND; Supplier 2: Newark; Supplier Part Number 2: 19C7164; Supplier 3: Mouser; Supplier Part Number 3: 579-MCP130-270I/SN; Mounting Technology: Surface Mount; Code_JEDEC: MS-012; Code_IPC: SOIC127P600-8; ComponentLink1Description: Manufacturer URL; ComponentLink1URL: http://www.microchip.com/; ComponentLink2Description: Datasheet; ComponentLink2URL: http://ww1.microchip.com/downloads/en/DeviceDoc/11184d.pdf; ComponentLink3Description: Package Specification; ComponentLink3URL: http://www.microchip.com/stellent/groups/techpub_sg/documents/packagingspec/en012702.pdf
footprint SOIC-SN8_N (SOIC, 8-Leads, Body 4.9x3.8mm, Pitch 1.27mm, IPC Medium Density)
footprint SOIC-SN8_L (SOIC, 8-Leads, Body 4.9x3.8mm, Pitch 1.27mm, IPC High Density)
footprint SOIC-SN8_M (SOIC, 8-Leads, Body 4.9x3.8mm, Pitch 1.27mm, IPC Low Density)
pins: 1 ~{RST} (oc), 2 VDD (power), 3 NC, 4 VSS (power), 5 NC, 6 NC, 7 NC, 8 NC

## MCP130-300DI/TO
designator U?
Microcontroller Supervisory Circuit with Open Drain Output, 3-Pin TO-92, Industrial Temperature; Manufacturer: Microchip; PartNumber: MCP130-300DI/TO; DatasheetVersion: revD, 2001; PackageVersion: revBB, Aug-2009; PackageReference: TO-92-TO3; PackageDescription: 3-Lead Plastic Transistor Outline (TO) [TO-92]; Supplier 1: Digi-Key; Supplier Part Number 1: MCP130-300DI/TO-ND; Supplier 2: Farnell; Supplier Part Number 2: 1332069; Supplier 3: Newark; Supplier Part Number 3: 34M7399; Supplier 4: Newark; Supplier Part Number 4: 96K3697; Supplier 5: Mouser; Supplier Part Number 5: 579-MCP130-300DI/TO; Mounting Technology: Through Hole; ComponentLink1Description: Manufacturer URL; ComponentLink1URL: http://www.microchip.com/; ComponentLink2Description: Datasheet; ComponentLink2URL: http://ww1.microchip.com/downloads/en/DeviceDoc/11184d.pdf; ComponentLink3Description: Package Specification; ComponentLink3URL: http://www.microchip.com/stellent/groups/techpub_sg/documents/packagingspec/en012702.pdf
footprint TO-92-TO3 (TO, Flat Index; 3 In-Line, Axial Leads; Body Dia. 4.8mm; Leads 0.56 x 0.53 mm (max))
pins: 1 ~{RST} (oc), 2 VDD (power), 3 VSS (power)

## MCP130-300FI/TO
designator U?
Microcontroller Supervisory Circuit with Open Drain Output, 3-Pin TO-92, Industrial Temperature; Manufacturer: Microchip; PartNumber: MCP130-300FI/TO; DatasheetVersion: revD, 2001; PackageVersion: revBB, Aug-2009; PackageReference: TO-92-TO3; PackageDescription: 3-Lead Plastic Transistor Outline (TO) [TO-92]; Supplier 1: Digi-Key; Supplier Part Number 1: MCP130-300FI/TO-ND; Supplier 2: Mouser; Supplier Part Number 2: 579-MCP130-300FI/TO; Mounting Technology: Through Hole; ComponentLink1Description: Manufacturer URL; ComponentLink1URL: http://www.microchip.com/; ComponentLink2Description: Datasheet; ComponentLink2URL: http://ww1.microchip.com/downloads/en/DeviceDoc/11184d.pdf; ComponentLink3Description: Package Specification; ComponentLink3URL: http://www.microchip.com/stellent/groups/techpub_sg/documents/packagingspec/en012702.pdf
footprint TO-92-TO3 (TO, Flat Index; 3 In-Line, Axial Leads; Body Dia. 4.8mm; Leads 0.56 x 0.53 mm (max))
pins: 1 VSS (power), 2 ~{RST} (oc), 3 VDD (power)

## MCP130-300HI/TO
designator U?
Microcontroller Supervisory Circuit with Open Drain Output, 3-Pin TO-92, Industrial Temperature; Manufacturer: Microchip; PartNumber: MCP130-300HI/TO; DatasheetVersion: revD, 2001; PackageVersion: revBB, Aug-2009; PackageReference: TO-92-TO3; PackageDescription: 3-Lead Plastic Transistor Outline (TO) [TO-92]; Supplier 1: Digi-Key; Supplier Part Number 1: MCP130-300HI/TO-ND; Supplier 2: Mouser; Supplier Part Number 2: 579-MCP130-300HI/TO; Mounting Technology: Through Hole; ComponentLink1Description: Manufacturer URL; ComponentLink1URL: http://www.microchip.com/; ComponentLink2Description: Datasheet; ComponentLink2URL: http://ww1.microchip.com/downloads/en/DeviceDoc/11184d.pdf; ComponentLink3Description: Package Specification; ComponentLink3URL: http://www.microchip.com/stellent/groups/techpub_sg/documents/packagingspec/en012702.pdf
footprint TO-92-TO3 (TO, Flat Index; 3 In-Line, Axial Leads; Body Dia. 4.8mm; Leads 0.56 x 0.53 mm (max))
pins: 1 VDD (power), 2 ~{RST} (oc), 3 VSS (power)

## MCP130-300I/SN
designator U?
Microcontroller Supervisory Circuit with Open Drain Output, 8-Pin SOIC, Industrial Temperature; Manufacturer: Microchip; PartNumber: MCP130-300I/SN; DatasheetVersion: revD, 2001; PackageVersion: revBB, Aug-2009; PackageReference: SOIC-SN8; PackageDescription: 8-Lead Plastic Small Outline (SN) - Narrow, 3.90mm Body [SOIC]; Supplier 1: Digi-Key; Supplier Part Number 1: MCP130-300I/SN-ND; Supplier 2: Newark; Supplier Part Number 2: 19C7166; Supplier 3: Mouser; Supplier Part Number 3: 579-MCP130-300I/SN; Mounting Technology: Surface Mount; Code_JEDEC: MS-012; Code_IPC: SOIC127P600-8; ComponentLink1Description: Manufacturer URL; ComponentLink1URL: http://www.microchip.com/; ComponentLink2Description: Datasheet; ComponentLink2URL: http://ww1.microchip.com/downloads/en/DeviceDoc/11184d.pdf; ComponentLink3Description: Package Specification; ComponentLink3URL: http://www.microchip.com/stellent/groups/techpub_sg/documents/packagingspec/en012702.pdf
footprint SOIC-SN8_N (SOIC, 8-Leads, Body 4.9x3.8mm, Pitch 1.27mm, IPC Medium Density)
footprint SOIC-SN8_L (SOIC, 8-Leads, Body 4.9x3.8mm, Pitch 1.27mm, IPC High Density)
footprint SOIC-SN8_M (SOIC, 8-Leads, Body 4.9x3.8mm, Pitch 1.27mm, IPC Low Density)
pins: 1 ~{RST} (oc), 2 VDD (power), 3 NC, 4 VSS (power), 5 NC, 6 NC, 7 NC, 8 NC

## MCP130-315DI/TO
designator U?
Microcontroller Supervisory Circuit with Open Drain Output, 3-Pin TO-92, Industrial Temperature; Manufacturer: Microchip; PartNumber: MCP130-315DI/TO; DatasheetVersion: revD, 2001; PackageVersion: revBB, Aug-2009; PackageReference: TO-92-TO3; PackageDescription: 3-Lead Plastic Transistor Outline (TO) [TO-92]; Supplier 1: Digi-Key; Supplier Part Number 1: MCP130-315DI/TO-ND; Supplier 2: Farnell; Supplier Part Number 2: 3021063; Supplier 3: Newark; Supplier Part Number 3: 19C7167; Supplier 4: Mouser; Supplier Part Number 4: 579-MCP130-315DI/TO; Mounting Technology: Through Hole; ComponentLink1Description: Manufacturer URL; ComponentLink1URL: http://www.microchip.com/; ComponentLink2Description: Datasheet; ComponentLink2URL: http://ww1.microchip.com/downloads/en/DeviceDoc/11184d.pdf; ComponentLink3Description: Package Specification; ComponentLink3URL: http://www.microchip.com/stellent/groups/techpub_sg/documents/packagingspec/en012702.pdf
footprint TO-92-TO3 (TO, Flat Index; 3 In-Line, Axial Leads; Body Dia. 4.8mm; Leads 0.56 x 0.53 mm (max))
pins: 1 ~{RST} (oc), 2 VDD (power), 3 VSS (power)

## MCP130-315FI/TO
designator U?
Microcontroller Supervisory Circuit with Open Drain Output, 3-Pin TO-92, Industrial Temperature; Manufacturer: Microchip; PartNumber: MCP130-315FI/TO; DatasheetVersion: revD, 2001; PackageVersion: revBB, Aug-2009; PackageReference: TO-92-TO3; PackageDescription: 3-Lead Plastic Transistor Outline (TO) [TO-92]; Supplier 1: Digi-Key; Supplier Part Number 1: MCP130-315FI/TO-ND; Supplier 2: Mouser; Supplier Part Number 2: 579-MCP130-315FI/TO; Mounting Technology: Through Hole; ComponentLink1Description: Manufacturer URL; ComponentLink1URL: http://www.microchip.com/; ComponentLink2Description: Datasheet; ComponentLink2URL: http://ww1.microchip.com/downloads/en/DeviceDoc/11184d.pdf; ComponentLink3Description: Package Specification; ComponentLink3URL: http://www.microchip.com/stellent/groups/techpub_sg/documents/packagingspec/en012702.pdf
footprint TO-92-TO3 (TO, Flat Index; 3 In-Line, Axial Leads; Body Dia. 4.8mm; Leads 0.56 x 0.53 mm (max))
pins: 1 VSS (power), 2 ~{RST} (oc), 3 VDD (power)

## MCP130-315HI/TO
designator U?
Microcontroller Supervisory Circuit with Open Drain Output, 3-Pin TO-92, Industrial Temperature; Manufacturer: Microchip; PartNumber: MCP130-315HI/TO; DatasheetVersion: revD, 2001; PackageVersion: revBB, Aug-2009; PackageReference: TO-92-TO3; PackageDescription: 3-Lead Plastic Transistor Outline (TO) [TO-92]; Supplier 1: Digi-Key; Supplier Part Number 1: MCP130-315HI/TO-ND; Supplier 2: Newark; Supplier Part Number 2: 23C2803; Supplier 3: Mouser; Supplier Part Number 3: 579-MCP130-315HI/TO; Mounting Technology: Through Hole; ComponentLink1Description: Manufacturer URL; ComponentLink1URL: http://www.microchip.com/; ComponentLink2Description: Datasheet; ComponentLink2URL: http://ww1.microchip.com/downloads/en/DeviceDoc/11184d.pdf; ComponentLink3Description: Package Specification; ComponentLink3URL: http://www.microchip.com/stellent/groups/techpub_sg/documents/packagingspec/en012702.pdf
footprint TO-92-TO3 (TO, Flat Index; 3 In-Line, Axial Leads; Body Dia. 4.8mm; Leads 0.56 x 0.53 mm (max))
pins: 1 VDD (power), 2 ~{RST} (oc), 3 VSS (power)

## MCP130-315I/SN
designator U?
Microcontroller Supervisory Circuit with Open Drain Output, 8-Pin SOIC, Industrial Temperature; Manufacturer: Microchip; PartNumber: MCP130-315I/SN; DatasheetVersion: revD, 2001; PackageVersion: revBB, Aug-2009; PackageReference: SOIC-SN8; PackageDescription: 8-Lead Plastic Small Outline (SN) - Narrow, 3.90mm Body [SOIC]; Supplier 1: Digi-Key; Supplier Part Number 1: MCP130-315I/SN-ND; Supplier 2: Mouser; Supplier Part Number 2: 579-MCP130-315I/SN; Mounting Technology: Surface Mount; Code_JEDEC: MS-012; Code_IPC: SOIC127P600-8; ComponentLink1Description: Manufacturer URL; ComponentLink1URL: http://www.microchip.com/; ComponentLink2Description: Datasheet; ComponentLink2URL: http://ww1.microchip.com/downloads/en/DeviceDoc/11184d.pdf; ComponentLink3Description: Package Specification; ComponentLink3URL: http://www.microchip.com/stellent/groups/techpub_sg/documents/packagingspec/en012702.pdf
footprint SOIC-SN8_N (SOIC, 8-Leads, Body 4.9x3.8mm, Pitch 1.27mm, IPC Medium Density)
footprint SOIC-SN8_L (SOIC, 8-Leads, Body 4.9x3.8mm, Pitch 1.27mm, IPC High Density)
footprint SOIC-SN8_M (SOIC, 8-Leads, Body 4.9x3.8mm, Pitch 1.27mm, IPC Low Density)
pins: 1 ~{RST} (oc), 2 VDD (power), 3 NC, 4 VSS (power), 5 NC, 6 NC, 7 NC, 8 NC

## MCP130-450DI/TO
designator U?
Microcontroller Supervisory Circuit with Open Drain Output, 3-Pin TO-92, Industrial Temperature; Manufacturer: Microchip; PartNumber: MCP130-450DI/TO; DatasheetVersion: revD, 2001; PackageVersion: revBB, Aug-2009; PackageReference: TO-92-TO3; PackageDescription: 3-Lead Plastic Transistor Outline (TO) [TO-92]; Supplier 1: Digi-Key; Supplier Part Number 1: MCP130-450DI/TO-ND; Supplier 2: Farnell; Supplier Part Number 2: 1137307; Supplier 3: Newark; Supplier Part Number 3: 96K3698; Supplier 4: Mouser; Supplier Part Number 4: 579-MCP130-450DI/TO; Mounting Technology: Through Hole; ComponentLink1Description: Manufacturer URL; ComponentLink1URL: http://www.microchip.com/; ComponentLink2Description: Datasheet; ComponentLink2URL: http://ww1.microchip.com/downloads/en/DeviceDoc/11184d.pdf; ComponentLink3Description: Package Specification; ComponentLink3URL: http://www.microchip.com/stellent/groups/techpub_sg/documents/packagingspec/en012702.pdf
footprint TO-92-TO3 (TO, Flat Index; 3 In-Line, Axial Leads; Body Dia. 4.8mm; Leads 0.56 x 0.53 mm (max))
pins: 1 ~{RST} (oc), 2 VDD (power), 3 VSS (power)

## MCP130-450FI/TO
designator U?
Microcontroller Supervisory Circuit with Open Drain Output, 3-Pin TO-92, Industrial Temperature; Manufacturer: Microchip; PartNumber: MCP130-450FI/TO; DatasheetVersion: revD, 2001; PackageVersion: revBB, Aug-2009; PackageReference: TO-92-TO3; PackageDescription: 3-Lead Plastic Transistor Outline (TO) [TO-92]; Supplier 1: Digi-Key; Supplier Part Number 1: MCP130-450FI/TO-ND; Supplier 2: Farnell; Supplier Part Number 2: 1084256; Supplier 3: Newark; Supplier Part Number 3: 97K4475; Supplier 4: Newark; Supplier Part Number 4: 96K3699; Supplier 5: Mouser; Supplier Part Number 5: 579-MCP130-450FI/TO; Mounting Technology: Through Hole; ComponentLink1Description: Manufacturer URL; ComponentLink1URL: http://www.microchip.com/; ComponentLink2Description: Datasheet; ComponentLink2URL: http://ww1.microchip.com/downloads/en/DeviceDoc/11184d.pdf; ComponentLink3Description: Package Specification; ComponentLink3URL: http://www.microchip.com/stellent/groups/techpub_sg/documents/packagingspec/en012702.pdf
footprint TO-92-TO3 (TO, Flat Index; 3 In-Line, Axial Leads; Body Dia. 4.8mm; Leads 0.56 x 0.53 mm (max))
pins: 1 VSS (power), 2 ~{RST} (oc), 3 VDD (power)

## MCP130-450HI/TO
designator U?
Microcontroller Supervisory Circuit with Open Drain Output, 3-Pin TO-92, Industrial Temperature; Manufacturer: Microchip; PartNumber: MCP130-450HI/TO; DatasheetVersion: revD, 2001; PackageVersion: revBB, Aug-2009; PackageReference: TO-92-TO3; PackageDescription: 3-Lead Plastic Transistor Outline (TO) [TO-92]; Supplier 1: Digi-Key; Supplier Part Number 1: MCP130-450HI/TO-ND; Supplier 2: Farnell; Supplier Part Number 2: 1212676; Supplier 3: Mouser; Supplier Part Number 3: 579-MCP130-450HI/TO; Mounting Technology: Through Hole; ComponentLink1Description: Manufacturer URL; ComponentLink1URL: http://www.microchip.com/; ComponentLink2Description: Datasheet; ComponentLink2URL: http://ww1.microchip.com/downloads/en/DeviceDoc/11184d.pdf; ComponentLink3Description: Package Specification; ComponentLink3URL: http://www.microchip.com/stellent/groups/techpub_sg/documents/packagingspec/en012702.pdf
footprint TO-92-TO3 (TO, Flat Index; 3 In-Line, Axial Leads; Body Dia. 4.8mm; Leads 0.56 x 0.53 mm (max))
pins: 1 VDD (power), 2 ~{RST} (oc), 3 VSS (power)

## MCP130-450I/SN
designator U?
Microcontroller Supervisory Circuit with Open Drain Output, 8-Pin SOIC, Industrial Temperature; Manufacturer: Microchip; PartNumber: MCP130-450I/SN; DatasheetVersion: revD, 2001; PackageVersion: revBB, Aug-2009; PackageReference: SOIC-SN8; PackageDescription: 8-Lead Plastic Small Outline (SN) - Narrow, 3.90mm Body [SOIC]; Supplier 1: Digi-Key; Supplier Part Number 1: MCP130-450I/SN-ND; Supplier 2: Mouser; Supplier Part Number 2: 579-MCP130-450I/SN; Mounting Technology: Surface Mount; Code_JEDEC: MS-012; Code_IPC: SOIC127P600-8; ComponentLink1Description: Manufacturer URL; ComponentLink1URL: http://www.microchip.com/; ComponentLink2Description: Datasheet; ComponentLink2URL: http://ww1.microchip.com/downloads/en/DeviceDoc/11184d.pdf; ComponentLink3Description: Package Specification; ComponentLink3URL: http://www.microchip.com/stellent/groups/techpub_sg/documents/packagingspec/en012702.pdf
footprint SOIC-SN8_N (SOIC, 8-Leads, Body 4.9x3.8mm, Pitch 1.27mm, IPC Medium Density)
footprint SOIC-SN8_L (SOIC, 8-Leads, Body 4.9x3.8mm, Pitch 1.27mm, IPC High Density)
footprint SOIC-SN8_M (SOIC, 8-Leads, Body 4.9x3.8mm, Pitch 1.27mm, IPC Low Density)
pins: 1 ~{RST} (oc), 2 VDD (power), 3 NC, 4 VSS (power), 5 NC, 6 NC, 7 NC, 8 NC

## MCP130-460DI/TO
designator U?
Microcontroller Supervisory Circuit with Open Drain Output, 3-Pin TO-92, Industrial Temperature; Manufacturer: Microchip; PartNumber: MCP130-460DI/TO; DatasheetVersion: revD, 2001; PackageVersion: revBB, Aug-2009; PackageReference: TO-92-TO3; PackageDescription: 3-Lead Plastic Transistor Outline (TO) [TO-92]; Supplier 1: Digi-Key; Supplier Part Number 1: MCP130-460DI/TO-ND; Supplier 2: Farnell; Supplier Part Number 2: 1851918; Supplier 3: Newark; Supplier Part Number 3: 96K3700; Supplier 4: Mouser; Supplier Part Number 4: 579-MCP130-460DI/TO; Mounting Technology: Through Hole; ComponentLink1Description: Manufacturer URL; ComponentLink1URL: http://www.microchip.com/; ComponentLink2Description: Datasheet; ComponentLink2URL: http://ww1.microchip.com/downloads/en/DeviceDoc/11184d.pdf; ComponentLink3Description: Package Specification; ComponentLink3URL: http://www.microchip.com/stellent/groups/techpub_sg/documents/packagingspec/en012702.pdf
footprint TO-92-TO3 (TO, Flat Index; 3 In-Line, Axial Leads; Body Dia. 4.8mm; Leads 0.56 x 0.53 mm (max))
pins: 1 ~{RST} (oc), 2 VDD (power), 3 VSS (power)

## MCP130-460FI/TO
designator U?
Microcontroller Supervisory Circuit with Open Drain Output, 3-Pin TO-92, Industrial Temperature; Manufacturer: Microchip; PartNumber: MCP130-460FI/TO; DatasheetVersion: revD, 2001; PackageVersion: revBB, Aug-2009; PackageReference: TO-92-TO3; PackageDescription: 3-Lead Plastic Transistor Outline (TO) [TO-92]; Supplier 1: Digi-Key; Supplier Part Number 1: MCP130-460FI/TO-ND; Supplier 2: Mouser; Supplier Part Number 2: 579-MCP130-460FI/TO; Mounting Technology: Through Hole; ComponentLink1Description: Manufacturer URL; ComponentLink1URL: http://www.microchip.com/; ComponentLink2Description: Datasheet; ComponentLink2URL: http://ww1.microchip.com/downloads/en/DeviceDoc/11184d.pdf; ComponentLink3Description: Package Specification; ComponentLink3URL: http://www.microchip.com/stellent/groups/techpub_sg/documents/packagingspec/en012702.pdf
footprint TO-92-TO3 (TO, Flat Index; 3 In-Line, Axial Leads; Body Dia. 4.8mm; Leads 0.56 x 0.53 mm (max))
pins: 1 VSS (power), 2 ~{RST} (oc), 3 VDD (power)